# Altium footprint library 1-Pcblib_Res.PcbLib: 58 footprints (part 2 of 4)
Each footprint in its own frame and in the unit in brackets; x right, y up, seen from the top. Pads: shape width x height; smd on the part's side, far side on the other; paste and mask are expansions set on the pad; w line width, h text height; cw(c..) or ccw(c..) is an arc to the next point about the centre after c.
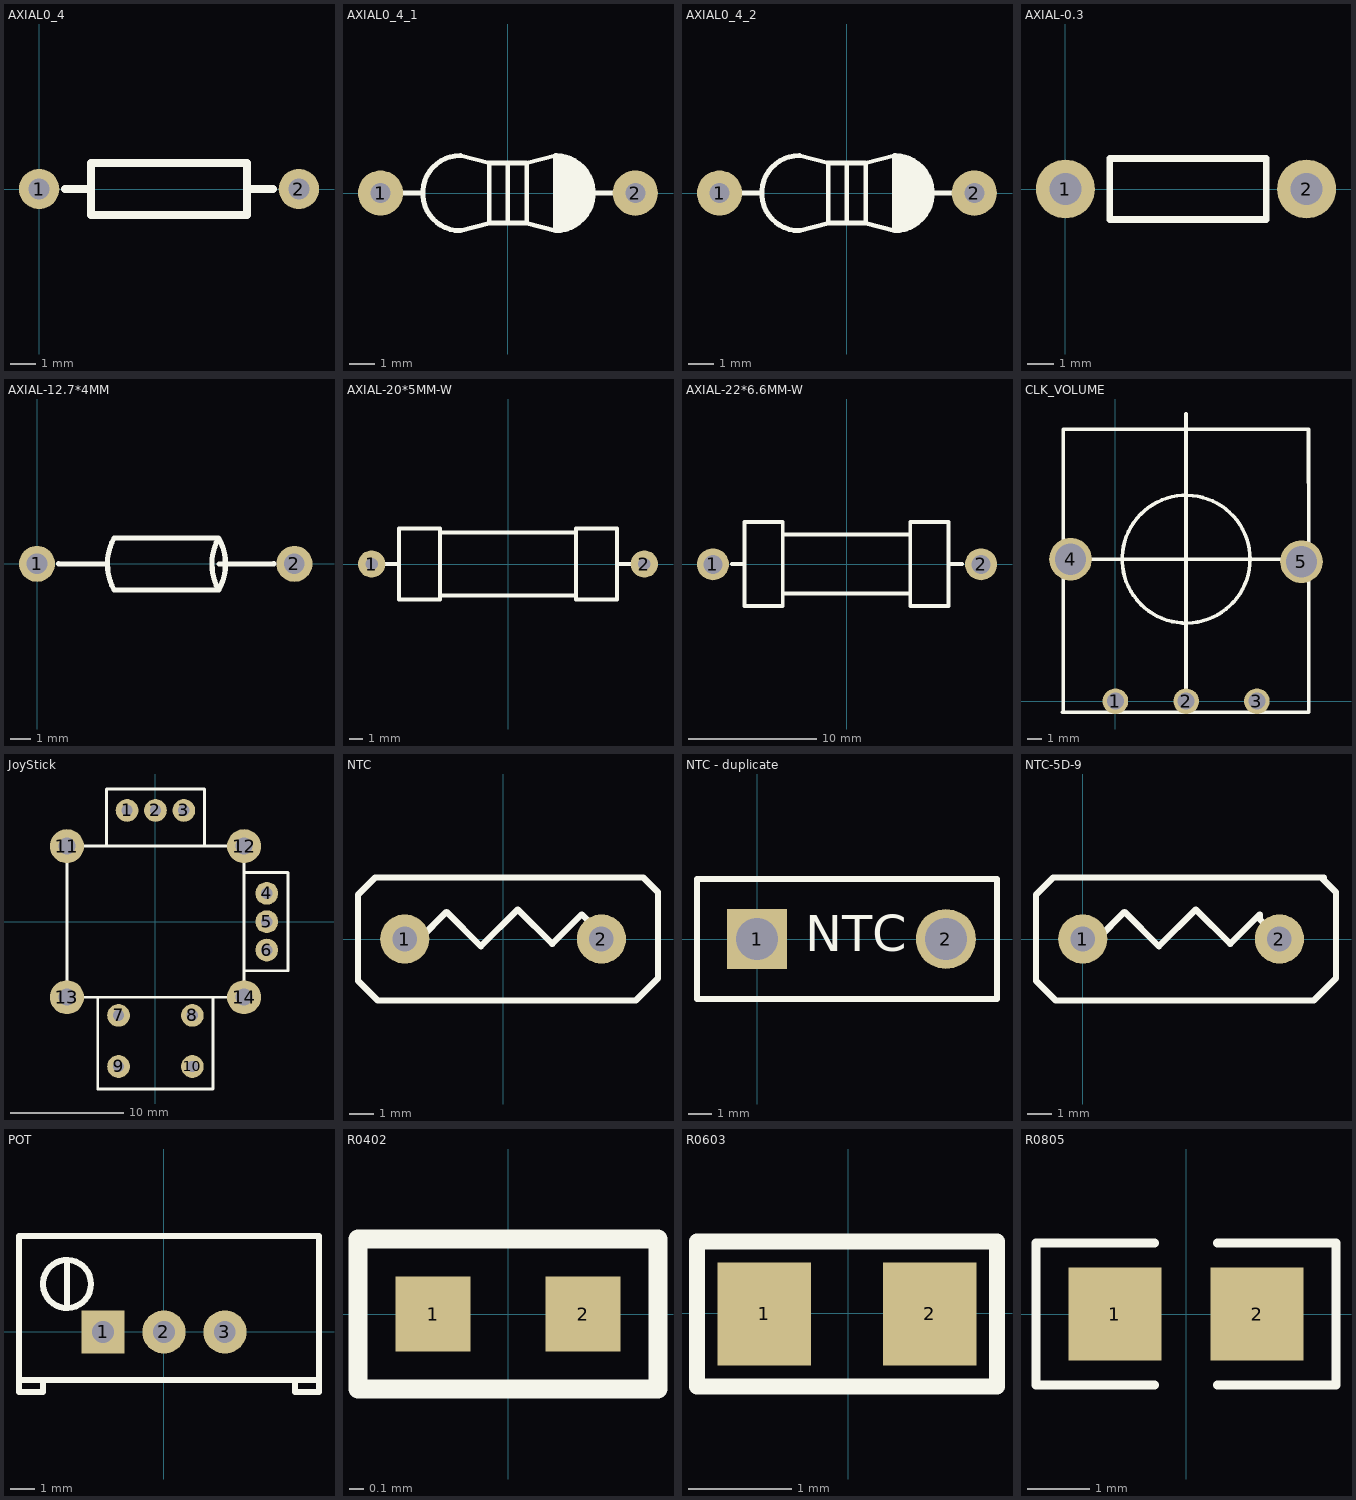
[diagram p1: the footprints below, top view; thin cyan lines are the x and y axes]

## AXIAL0_4 [mil]
height 23.62
pads (2):
  round 62 hole 32: 1(-0.24,0.22) 2(399.76,0.22)
Top Overlay:
  lines w12: 39.76,0.22 79.76,0.22 ; 319.76,0.22 359.76,0.22 ; 79.76,-39.78 319.76,-39.78 319.76,40.22 79.76,40.22 79.76,-39.78
3D body: height 78.74, standoff -128.35, extent -10,-49.21 413.62,50

## AXIAL0_4_1 [mm]
pads (2):
  round 1.8 hole 0.8: 1(-5.08,0)
  oval 1.8x1.81 hole 0.8: 2(5.08,0)
Top Overlay:
  lines w0.178: -1.9,-1.5 -0.75,-1.2 -0.75,1.2 -1.9,1.5 ; 0,-1.185 0,1.115 ; 0.75,-1.2 1.9,-1.5 ; 0.75,-1.1 0.75,1.2 1.9,1.5
  lines w0.2: -4.826,0 -3.5,0 ; -1.9,-1.5 cw(c-1.9,0) -1.9,1.5 ; -0.75,-1.2 0.75,-1.2 ; -0.75,1.2 0.75,1.2 ; 1.9,-1.5 ccw(c1.9,0) 1.9,1.5 ; 2.823,-1.041 2.823,0.959 ; 2.95,-0.991 2.95,0.889 ; 3.052,-0.813 3.052,0.716 ; 3.15,-0.563 3.15,0.58 ; 3.277,-0.432 3.277,0.33 ; 3.5,0 5,0
  lines w0.254: 1.93,-1.422 1.93,1.473 ; 2.134,-1.422 2.134,1.448 ; 2.362,-1.397 2.362,1.346 ; 2.54,-1.27 2.54,1.295 ; 2.718,-1.194 2.718,1.194
Bottom Overlay:
  lines w0.254: -5,0 -1.778,0 -1.524,1.016 -1.27,0 -1.016,-1.016 -0.787,0 -0.508,1.016 -0.254,0 0,-1.016 0.254,0 0.508,1.016 0.762,0 1.016,-1.016 1.27,0 5,0
3D body: height 3.12, standoff -2.06, extent -5.385,-1.118 5.334,1.118

## AXIAL0_4_2 [mm]
pads (2):
  round 1.8 hole 0.8: 1(-5.08,0)
  oval 1.8x1.81 hole 0.8: 2(5.08,0)
Top Overlay:
  lines w0.178: -1.9,-1.5 -0.75,-1.2 -0.75,1.2 -1.9,1.5 ; 0,-1.185 0,1.115 ; 0.75,-1.2 1.9,-1.5 ; 0.75,-1.1 0.75,1.2 1.9,1.5
  lines w0.2: -4.826,0 -3.5,0 ; -1.9,-1.5 cw(c-1.9,0) -1.9,1.5 ; -0.75,-1.2 0.75,-1.2 ; -0.75,1.2 0.75,1.2 ; 1.9,-1.5 ccw(c1.9,0) 1.9,1.5 ; 2.823,-1.041 2.823,0.959 ; 2.95,-0.991 2.95,0.889 ; 3.052,-0.813 3.052,0.716 ; 3.15,-0.563 3.15,0.58 ; 3.277,-0.432 3.277,0.33 ; 3.5,0 5,0
  lines w0.254: 1.93,-1.422 1.93,1.473 ; 2.134,-1.422 2.134,1.448 ; 2.362,-1.397 2.362,1.346 ; 2.54,-1.27 2.54,1.295 ; 2.718,-1.194 2.718,1.194
Bottom Overlay:
  lines w0.254: -5,0 -1.778,0 -1.524,1.016 -1.27,0 -1.016,-1.016 -0.787,0 -0.508,1.016 -0.254,0 0,-1.016 0.254,0 0.508,1.016 0.762,0 1.016,-1.016 1.27,0 5,0
3D body: height 2.93, standoff -2.54, extent -5.359,-1.092 5.41,1.219

## AXIAL-0.3 [mm]
pads (2):
  round 2.2 hole 1.2: 1(0,0) 2(9,0)
Top Overlay:
  lines w0.254: 1.651,-1.143 7.493,-1.143 7.493,1.143 1.651,1.143 1.651,-1.143

## AXIAL-12.7*4MM [mil]
height 196.85
pads (2):
  round 70 hole 40: 1(0,0) 2(500,0)
Top Overlay:
  lines w10: 41.9,0.1 137,0 ; 354,-0.03 459.88,0.12 ; 352.86,50.46 cw(c262.12,-0.4) 353,-51 ; 352.86,50.46 ccw(c443.74,-0.15) 353,-51 ; 352.86,50.46 149.86,50.46 ccw(c240.74,-0.15) 150,-51 353,-51
3D body: height 161.42, standoff -51.18, extent -6,-64 509.75,61.98

## AXIAL-20*5MM-W [mm] "2W电阻"
height 10
pads (2):
  round 2 hole 0.9: 1(-10,0) 2(10,0)
Top Overlay:
  lines w0.3: -5,-2.6 -5,-2 -5,2 -5,2.6 ; -5,-2.3 5,-2.3 ; -5,2.3 5,2.3 ; 5,-2.6 5,-2 5,2 5,2.6
  lines w0.305: -8.983,0 -8,0 ; -5,-2.6 -8,-2.6 -8,2.6 -5,2.6 ; 5,-2.6 8,-2.6 8,2.6 5,2.6 ; 8,0 9.068,0
3D body: height 5.8, standoff -1.4, extent -10.425,-2.515 10.375,2.485

## AXIAL-22*6.6MM-W [mm] "2W电阻"
height 10
pads (2):
  round 2.5 hole 1.5: 1(-10.465,-0.025) 2(10.541,-0.025)
Top Overlay:
  lines w0.3: -5,-3.3 -5,3.3 ; -5,-2.6 -5,-2 ; -5,-2.3 5,-2.3 ; -5,2 -5,2.6 ; -5,2.3 5,2.3 ; 5,-3.3 5,3.3 ; 5,-2.6 5,-2 ; 5,2 5,2.6
  lines w0.305: -8.983,0 -8,0 ; -5,-3.3 -8,-3.3 -8,3.3 -5,3.3 ; 5,-3.3 8,-3.3 8,3.3 5,3.3 ; 8,0 9.068,0
3D body: height 8.3, standoff -2, extent -10.998,-3.249 11.202,3.351

## CLK_VOLUME [mm]
pads (5):
  round 1.8 hole 1.2: 1(0,0) 2(4.98,0) 3(9.96,0)
  round 3 hole 2.2: 4(-3.159,10) 5(13.097,9.824)
Top Overlay:
  circle w0.254: c4.976,10 r4.5
  lines w0.254: -3.756,-0.763 13.516,-0.763 ; -3.679,19.142 -3.667,-0.769 ; -3.672,19.144 13.6,19.144 ; -3.159,10 13.104,10 ; 4.969,0.924 4.969,20.221 ; 13.593,19.142 13.605,11.524 13.619,-0.769
3D body: height 32, standoff -3, extent -4.047,-1.727 13.953,19.273

## JoyStick [mm] "Ä£Ä"
height 20
pads (14):
  round 2 hole 1: 1(-2.5,9.8) 2(0,9.8) 3(2.5,9.8) 4(9.8,2.5) 5(9.8,0) 6(9.8,-2.5) 7(-3.25,-8.25) 8(3.25,-8.25) 9(-3.25,-12.75) 10(3.25,-12.75)
  round 3 hole 1.5: 11(-7.8,6.65) 12(7.8,6.65) 13(-7.8,-6.65) 14(7.8,-6.65)
Top Overlay:
  lines w0.254: -5.08,-6.65 -5.08,-14.732 5.08,-14.732 5.08,-6.65 ; -4.318,6.65 -4.318,11.684 4.318,11.684 4.318,6.65 ; 7.8,-4.318 11.684,-4.318 11.684,4.318 7.8,4.318 ; -7.8,-6.65 7.8,-6.65 7.8,6.65 -7.8,6.65 -7.8,-6.65

## NTC [mm] "?"
height 5.08
pads (2):
  round 2 hole 1: 1(-4,0) 2(4,0)
Top Overlay:
  lines w0.254: -4,0 -3.4,0 -2.3,1.1 -0.9,-0.3 0.6,1.2 2,-0.2 3.2,1 4,0.2 4,0 ; -5.9,-1.7 -5.1,-2.5 5.4,-2.5 6.3,-1.6 6.3,1.9 5.7,2.5 -5,2.5 -5.2,2.5 -5.9,1.8 -5.9,-1.7

## NTC - duplicate [mil] "热敏电阻"
pads (2):
  rect 100x100 hole 70: 1(0,0)
  round 100 hole 70: 2(314.96,0)
Top Overlay:
  lines w10: -100,-100 -100,100 400,100 400,-100 -100,-100
  text "NTC" at 80,-20 h60

## NTC-5D-9 [mm]
pads (2):
  round 2 hole 1: 1(0,0) 2(8,0)
Top Overlay:
  lines w0.254: 0,0 0.6,0 1.7,1.1 3.1,-0.3 4.6,1.2 6,-0.2 7.2,1 7.2,0.8 8,0 ; 9.8,2.5 9.7,2.5 ; 9.7,2.5 10.3,1.9 10.3,-1.6 9.4,-2.5 -1.1,-2.5 -1.9,-1.7 -1.9,1.8 -1.2,2.5 -1,2.5 9.7,2.5
3D body: height 13, standoff -2.5, extent -2.23,-3.571 10.357,3.573

## POT [mm]
pads (3):
  rect 1.8x1.8 hole 0.9: 1(-2.54,0)
  round 1.8 hole 0.9: 2(0,0) 3(2.54,0)
Top Overlay:
  circle w0.254: c-4.04,2 r1
  lines w0.254: -5.04,-2 -5.04,-2.5 -6.04,-2.5 -6.04,-2 ; -4.04,1 -4.04,3 ; 5.46,-2 5.46,-2.5 6.46,-2.5 6.46,-2 ; -6.04,-2 -6.04,4 6.46,4 6.46,-2 ; -6.04,-2 6.46,-2
3D body: height 12.46, standoff -5.04, extent -4.6,-2.438 4.6,2.362

## R0402 [mil]
pads (2):
  rect 20x20 smd: 1(-20,0) 2(20,0)
Top Overlay:
  lines w5: -40,-20 -40,20 40,20 40,-20 -40,-20
3D body: height 13.78, standoff 0, extent -19.68,-10 19.68,9.69

## R0603 [mm]
height 1.2
pads (2):
  rect 0.9x1 smd: 1(-0.813,-0.009) 2(0.787,-0.009)
Top Overlay:
  lines w0.152: -1.463,-0.709 1.437,-0.709 1.437,0.691 -1.463,0.691 -1.463,-0.709
3D body: height 0.45, standoff 0, extent -0.772,-0.39 0.828,0.41

## R0805 [mm]
pads (2):
  rect 1.5x1.5 smd: 1(-1.143,0) 2(1.143,0)
Top Overlay:
  lines w0.15: -0.508,-1.143 -2.413,-1.143 -2.413,1.143 -0.508,1.143 ; 0.508,-1.143 2.413,-1.143 2.413,1.143 0.508,1.143
3D body: height 0.55, standoff 0, extent -0.991,-0.635 1.009,0.625